# Altium schematic symbol library Mind Terrorists.SchLib: 174 symbols (part 2 of 2)
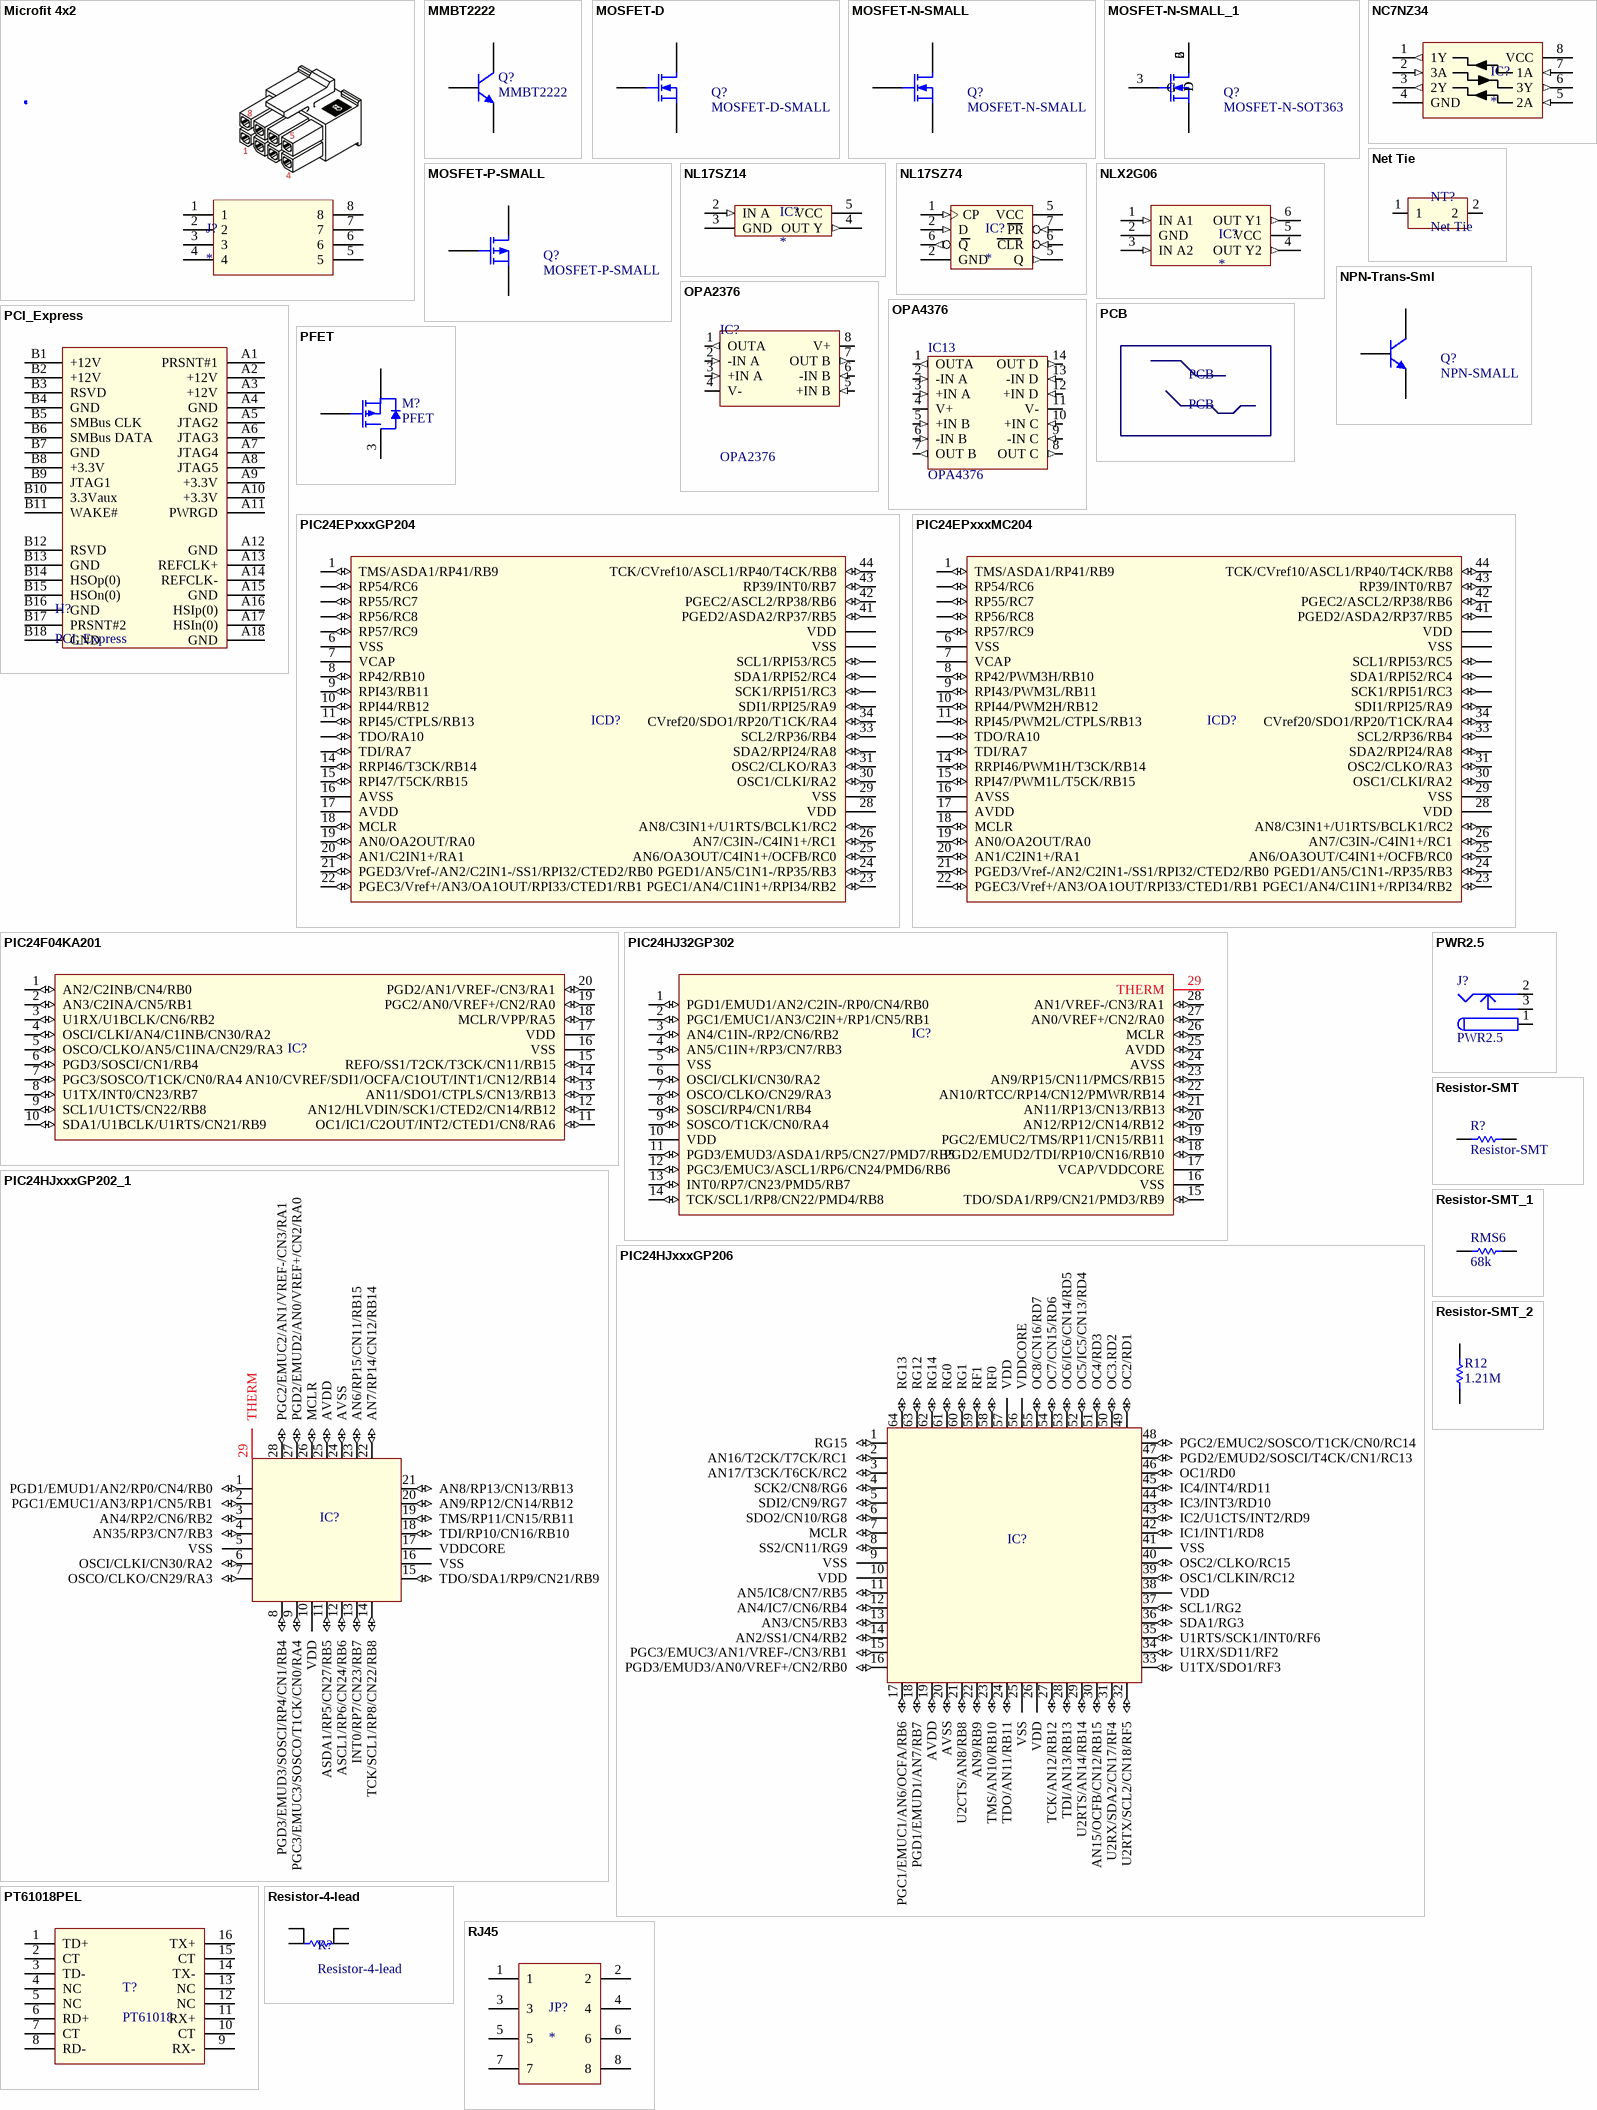
[diagram p5: symbols Microfit 4x2 to RJ45]

## Resistor-SMT
designator R?
Resistor; Value: 1K; Publisher: Mind Terrorists Inc.
simulation model RESISTOR (Resistor)
signal-integrity model Res
footprint 0603 Resistor - Reflow (0603 Chip Resistor, Body 1.6x0.8mm, IPC Low Density, Reflow)
footprint 0805 Resistor Reflow profile (0805 Chip Resistor, 2-Leads, Body 2.0x1.3mm, IPC Low Density)
footprint 1206 Current Sense Resistor
footprint S1621-XX (Harwin SMD Jumper 8mm)
pins: 1, 2

## Resistor-SMT_1
designator RMS6, comment value 68k  (hidden comment: Resistor-SMT)
Resistor; Manufacturer: Generic; Lagernummer: 1338; Lieferant: SRM; Projekt/Such-Nr.: ESPE 1098 Converter; DA: KR; DB: W; WERT: 68; ZUZATZ: 0.06; RM: #  0603; KZB: RMS; TYP: TK25 0.1%; NAME: Widerstand, Metallf.-SMD; Layer: Top; Bezeichnung: 68k
simulation model RESISTOR (Resistor)
signal-integrity model Res
footprint 0603 Resistor - Reflow (0603 Chip Resistor, Body 1.6x0.8mm, IPC Low Density, Reflow)
footprint 0805 Resistor Reflow profile (0805 Chip Resistor, 2-Leads, Body 2.0x1.3mm, IPC Low Density)
footprint 1206 Current Sense Resistor
footprint SRM 0603 Resistor
pins: 1, 2

## Resistor-SMT_2
designator R12, comment 1.21M
Resistor; Tolerance/Temp rating: 1%; Lagernummer: 5237; KZB: RMS; Value: 1.21M; Package: 0603
simulation model RESISTOR (Resistor)
signal-integrity model Res
footprint 0603 Resistor - Reflow (0603 Chip Resistor, Body 1.6x0.8mm, IPC Low Density, Reflow)
footprint 0805 Resistor Reflow profile (0805 Chip Resistor, 2-Leads, Body 2.0x1.3mm, IPC Low Density)
footprint 1206 Current Sense Resistor
pins: 1, 2

## RJ45
designator JP?
RJ45
footprint RJ45_TE_TOP (TE Top Entry RJ45 5520259-4)
pins: 1, 2, 3, 4, 5, 6, 7, 8

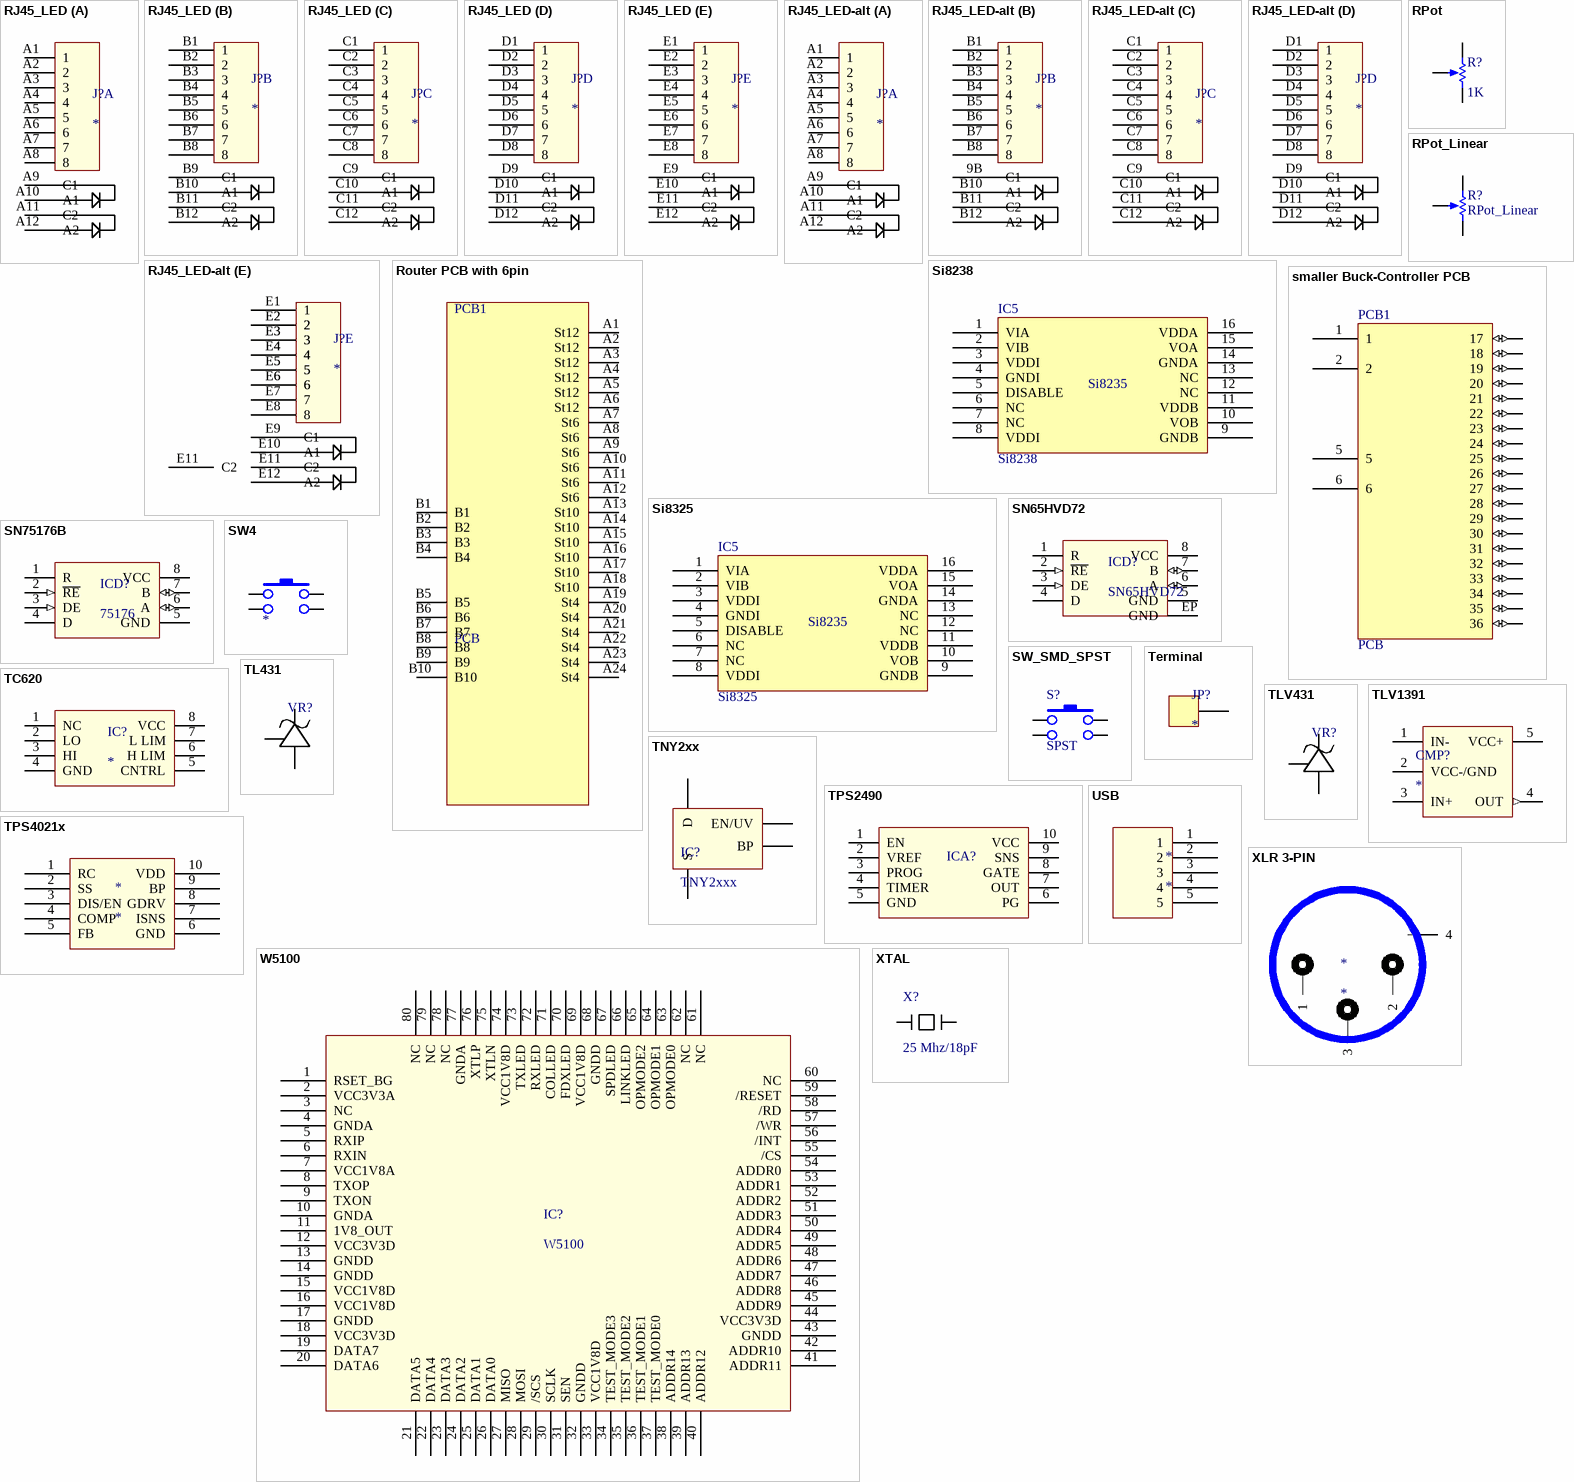
[diagram p4: symbols RJ45_LED to XTAL]

## RJ45_LED
designator J?
RJ45 with LEDs
footprint ARJ14A-MB (RJ45 ABRACON)
part A pins: A1 1, A2 2, A3 3, A4 4, A5 5, A6 6, A7 7, A8 8, A9 C1, A10 A1, A11 C2, A12 A2
part B pins: B1 1, B2 2, B3 3, B4 4, B5 5, B6 6, B7 7, B8 8, B9 C1, B10 A1, B11 C2, B12 A2
part C pins: C1 1, C2 2, C3 3, C4 4, C5 5, C6 6, C7 7, C8 8, C9 C1, C10 A1, C11 C2, C12 A2
part D pins: D1 1, D2 2, D3 3, D4 4, D5 5, D6 6, D7 7, D8 8, D9 C1, D10 A1, D11 C2, D12 A2
part E pins: E1 1, E2 2, E3 3, E4 4, E5 5, E6 6, E7 7, E8 8, E9 C1, E10 A1, E11 C2, E12 A2

## RJ45_LED-alt
designator J?
RJ45 with LEDs
footprint MRJ45_1x5 (MRJ RUGGED); pin to pad E1>A1 E2>A2 E3>A3 E4>A4 E5>A5 E6>A6 E10>A10 E11>A11
footprint MRJ45_1x5 (MRJ RUGGED); pin to pad E1>B1 E2>B2 E3>B3 E4>B4 E5>B5 E6>B6 E10>B10 E11>B11
footprint MRJ45_1x5 (MRJ RUGGED); pin to pad E1>C1 E2>C2 E3>C3 E4>C4 E5>C5 E6>C6 E10>C10 E11>C11
footprint MRJ45_1x5 (MRJ RUGGED); pin to pad E1>D1 E2>D2 E3>D3 E4>D4 E5>D5 E6>D6 E10>D10 E11>D11
footprint MRJ45_1x5 (MRJ RUGGED)
part A pins: A1 1, A2 2, A3 3, A4 4, A5 5, A6 6, A7 7, A8 8, A9 C1, A10 A1, A11 C2, A12 A2
part B pins: 9B C1, B1 1, B2 2, B3 3, B4 4, B5 5, B6 6, B7 7, B8 8, B10 A1, B11 C2, B12 A2
part C pins: C1 1, C2 2, C3 3, C4 4, C5 5, C6 6, C7 7, C8 8, C9 C1, C10 A1, C11 C2, C12 A2
part D pins: D1 1, D2 2, D3 3, D4 4, D5 5, D6 6, D7 7, D8 8, D9 C1, D10 A1, D11 C2, D12 A2
part E pins: E1 1, E2 2, E2 2, E3 3, E3 3, E4 4, E4 4, E5 5, E5 5, E6 6, E6 6, E7 7, E8 8, E9 C1, E10 A1, E11 C2, E11 C2, E12 A2

## Router PCB with 6pin
designator PCB1, comment PCB
Value: N.B.; KZB: PCB
footprint Router PCB Card Edge Pattern - 6pol (Edge Connector Pattern)
pins: A1 St12, A2 St12, A3 St12, A4 St12, A5 St12, A6 St12, A7 St6, A8 St6, A9 St6, A10 St6, A11 St6, A12 St6, A13 St10, A14 St10, A15 St10, A16 St10, A17 St10, A18 St10, A19 St4, A20 St4, A21 St4, A22 St4, A23 St4, A24 St4, B1, B2, B3, B4, B5, B6, B7, B8, B9, B10

## RPot
designator R?  value 1K
Potentiometer; Sim Note: Enter the Resistance value and the set point into parameter fields.; Set Position: 0.5; Published: 8-Jun-2000; LatestRevisionDate: 17-Jul-2002; LatestRevisionNote: Re-released for DXP Platform.; PackageReference: VR5; Publisher: Altium Limited
footprint POT-RV16AF-20 (5mm Pitch Vert PC Mount Pot)
pins: 1 TOP, 2 TAP, 3 BOT
1 alternate drawing of the same symbol

## RPot_Linear
designator R?
Linear Potentiometer
footprint SL30-V2
pins: 1 TAP, 2 TOP, 3 BOT
1 alternate drawing of the same symbol

## Si8238
designator IC5
HV Gate Driver 4.0 A/ 3V VDDI; Part Number: Si8238BB-D-IS1; Value: Si8328; Order Number: 2423167; Supplier: Farnell; Package: NSOIC-16
footprint SOIC_W 16 (SOIC, 16-Leads, Body 10.5x7.6mm (max), Pitch 1.27mm, IPC Medium Density)
footprint SOIC_N 16 (SOIC, 16-Leads, Body 9.3x3.9mm (max), Pitch 1.27mm, IPC Medium Density)
pins: 1 VIA, 2 VIB, 3 VDDI, 4 GNDI, 5 DISABLE, 6 NC, 7 NC, 8 VDDI, 9 GNDB, 10 VOB, 11 VDDB, 12 NC, 13 NC, 14 GNDA, 15 VOA, 16 VDDA
text: Si8235

## Si8325
designator IC5
Si8235BD-D-IS; Order Number: 2423158; Value: Si8325; Part Number: Si8235BD-D-IS; Supplier: Farnell; Package: WSOIC-16
footprint SOIC_W 16 (SOIC, 16-Leads, Body 10.5x7.6mm (max), Pitch 1.27mm, IPC Medium Density)
pins: 1 VIA, 2 VIB, 3 VDDI, 4 GNDI, 5 DISABLE, 6 NC, 7 NC, 8 VDDI, 9 GNDB, 10 VOB, 11 VDDB, 12 NC, 13 NC, 14 GNDA, 15 VOA, 16 VDDA
text: Si8235

## smaller Buck-Controller PCB
designator PCB1, comment PCB
Value: N.B.; KZB: PCB
footprint Buck+Controller PCB Card Edge Pattern (Edge Connector Pattern)
footprint Buck+Controller PCB Card Edge Pattern - smaller (Edge Connector Pattern)
pins: 1, 2, 5, 6, 17 (io), 18 (io), 19 (io), 20 (io), 21 (io), 22 (io), 23 (io), 24 (io), 25 (io), 26 (io), 27 (io), 28 (io), 29 (io), 30 (io), 31 (io), 32 (io), 33 (io), 34 (io), 35 (io), 36 (io)

## SN65HVD72
designator ICD?
RS-485 Transceiver
footprint MSOP-8, 3mmx3mm, 0.65mm (MSOP, 8-Leads, Body 3.0x3.0mm (max), Pitch 0.65mm, IPC Medium Density)
footprint DFN65P300X300X100_HS-9L (DFN, 8-Leads, Body 3,00x3,00mm, Pitch 0,65mm, Thermal Pad 2,40x1,65mm, IPC High Density)
pins: 1 R, 2 ~{RE} (in), 3 DE (in) "Driver Enable Input", 4 D "Internal NC", 5 GND (power) "Logic side ground", 6 A (io) "Noninverting Driver Output and Noninverting Receiver Input", 7 B (io) "Inverting Driver Output and Inverting Receiver Input", 8 VCC (power) "Logic side +5V", EP GND (power) "Logic side ground"

## SN75176B
designator ICD?, comment 75176
RS-485 Transceiver
pins: 1 R, 2 ~{RE} (in), 3 DE (in) "Driver Enable Input", 4 D "Internal NC", 5 GND (power) "Logic side ground", 6 A (io) "Noninverting Driver Output and Noninverting Receiver Input", 7 B (io) "Inverting Driver Output and Inverting Receiver Input", 8 VCC (power) "Logic side +5V"

## SW4
designator ?
pins: 1, 2, 3, 4

## SW_SMD_SPST
designator S?, comment SPST
footprint EVQxx (SMT Switch 6.1x6.0mm)
footprint evqq2 (SPST Switch 6mm x 6.5mm)
pins: A0, A1, B0, B1

## TC620
designator IC?
Temp Sensor
footprint SO8 (Small Outline; 8 Leads; Body Width 3.9 mm; Pitch 1.27 mm)
pins: 1 NC, 2 LO "Low Temp", 3 HI "High Temp", 4 GND (power) "Ground", 5 CNTRL "Control", 6 H LIM "High Temp Limit", 7 L LIM "Low Temp Limit", 8 VCC (power) "Supply Voltage"

## Terminal
designator JP?
footprint Z1262 (STP Model Horizontal 20A box connector)
footprint Z6284 (Hybrid 0.25" Quick Disconnect Terminal)
footprint Z1237 (SMT Quick Disconnect Receptacle)
footprint Z6195 (SMT Quick Disconnect Tab)
footprint Z1235 (IDC Wire Connector 20A)
pins: 1

## TL431
designator VR?, comment V_KA max 7V  (value not drawn)
Voltage Reference
footprint SO8 Intersil (SOIC, 8-Leads, Body 5.0x4.0mm (max), Pitch 1.27mm, IPC Medium Density); pin to pad 1>8 2>1 3>2+3+6+7
pins: 1 R, 2 C, 3 A

## TLV431
designator VR?, comment V_KA max 7V  (value not drawn)
Voltage Reference
footprint SC-70-6 (SC-70 6-Leads, Body 2.2x2.4mm (max), Pitch 0.65mm, IPC Medium Density); pin to pad 1>3 2>1 3>6
footprint SOT-23-OnSemi (SOT23-3)
pins: 1 R, 2 C, 3 A

## TLV1391
designator CMP?
Comparator SOT23-5
footprint R-PDSO-G5 (SOT23, 5-Leads, Body 3.0x3.0mm (max), Pitch 0.95mm, IPC Medium Density)
pins: 1 IN- "High Threshold", 2 VCC-/GND (power) "Ground", 3 IN+ "Low Threshold", 4 OUT (out) "Output", 5 VCC+ (power) "Supply Voltage"

## TNY2xx
designator IC?, comment TNY2xxx
Power Integrations TNY Switch
footprint SMD-8B PI (SOP, 8-Leads, Body 9.8x6.5mm (max), Pitch 2.54mm, IPC Medium Density)
pins: 1 BP (power), 2 S (power), 3 S (power) hidden to GND, 4 EN/UV (power), 5 D (power), 7 S (power) hidden to GND, 8 S (power) hidden to GND

## TPS2490
designator ICA?  (value not drawn)
OVP OCP IC
footprint DGS (TSSOP, 10-Leads, Body 3.1x3.1mm (max), Pitch 0.50mm, IPC Medium Density)
pins: 1 EN, 2 VREF, 3 PROG, 4 TIMER, 5 GND, 6 PG, 7 OUT, 8 GATE, 9 SNS, 10 VCC

## TPS4021x
designator *
pins: 1 RC, 2 SS, 3 DIS/EN, 4 COMP, 5 FB, 6 GND, 7 ISNS, 8 GDRV, 9 BP, 10 VDD

## USB
designator *
footprint MUSB-B5-S-RA-SMT (mini USB connector 5 pin SMT)
footprint USB_A_VERTICAL_PTH-3 (USB_A_VERTICAL_PTH)
pins: 1, 2, 3, 4, 5

## W5100
designator IC?
Hardwired TCP/IP Ethernet Controller; Value: W5100
footprint TQFP80-WIZNET (TQFP, 80-Leads, Body 10.00x10.00mm, Pitch 0.40mm, IPC High Density)
pins: 1 RSET_BG, 2 VCC3V3A, 3 NC, 4 GNDA, 5 RXIP, 6 RXIN, 7 VCC1V8A, 8 TXOP, 9 TXON, 10 GNDA, 11 1V8_OUT, 12 VCC3V3D, 13 GNDD, 14 GNDD, 15 VCC1V8D, 16 VCC1V8D, 17 GNDD, 18 VCC3V3D, 19 DATA7, 20 DATA6, 21 DATA5, 22 DATA4, 23 DATA3, 24 DATA2, 25 DATA1, 26 DATA0, 27 MISO, 28 MOSI, 29 /SCS, 30 SCLK, 31 SEN, 32 GNDD, 33 VCC1V8D, 34 TEST_MODE3, 35 TEST_MODE2, 36 TEST_MODE1, 37 TEST_MODE0, 38 ADDR14, 39 ADDR13, 40 ADDR12, 41 ADDR11, 42 ADDR10, 43 GNDD, 44 VCC3V3D, 45 ADDR9, 46 ADDR8, 47 ADDR7, 48 ADDR6, 49 ADDR5, 50 ADDR4, 51 ADDR3, 52 ADDR2, 53 ADDR1, 54 ADDR0, 55 /CS, 56 /INT, 57 /WR, 58 /RD, 59 /RESET, 60 NC, 61 NC, 62 NC, 63 OPMODE0, 64 OPMODE1, 65 OPMODE2, 66 LINKLED, 67 SPDLED, 68 GNDD, 69 VCC1V8D, 70 FDXLED, 71 COLLED, 72 RXLED, 73 TXLED, 74 VCC1V8D, 75 XTLN, 76 XTLP, 77 GNDA, 78 NC, 79 NC, 80 NC

## XLR 3-PIN
designator *
pins: 1, 2, 3, 4

## XTAL
designator X?, comment 25 Mhz/18pF
Crystal; Value: 25 Mhz/18pF
footprint HC-49S (SMD HC-49S Crystal, IPC High Density)
pins: 1, 2